# Altium schematic symbol library SECF_Contact_Fingers.Schlib: 1 symbol
Pins are listed as number, name and electrical type; pins without a type are passive.

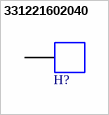
[diagram p0: symbol 331221602040]

## 331221602040
designator H?  (value not drawn)
WE-SECF SMT EMI Contact Finger, working height 5-5.7mm; Manufacturer: Wurth Elektronik; Recommended Working Height Min: 5mm; Recommended Working Height Max: 5.7mm; ComponentLink1Description: Website Link; ComponentLink1URL: https://www.we-online.com/redexpert/article/331221602040?ad; ComponentLink2Description: Datasheet Link; ComponentLink2URL: https://www.we-online.com/redexpert/spec/331221602040?ad; Manufacturer Part Number: 331221602040; Category: EMC Shielding; Match Code: WE-SECF; Mount: Surface Mount; Operating Temperature Max: 100°C; Operating Temperature Min: -40°C; Packaging: Tape and Reel; Length: 6mm; Width: 2mm; Height: 4mm; Material: Copper Beryllium (CuBe) gold-plated(AU)
footprint 331221602040
pins: 1